# Altium schematic symbol library KSA0M411LFTR.SchLib: 1 symbol
Pins are listed as number, name and electrical type; pins without a type are passive.

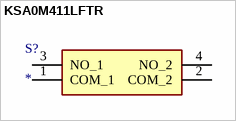
[diagram p0: symbol KSA0M411LFTR]

## KSA0M411LFTR
designator S?
Switch; Manufacturer_Name: C & K COMPONENTS; Manufacturer_Part_Number: KSA0M411LFTR; Datasheet Link: https://www.ckswitches.com/media/1457/ksa_ksl.pdf; Height: 4.9mm
footprint KSA0M411LFTR
pins: 1 COM_1, 2 COM_2, 3 NO_1, 4 NO_2